# Altium schematic symbol library MagJack.SchLib: 1 symbol
Pins are listed as number, name and electrical type; pins without a type are passive.

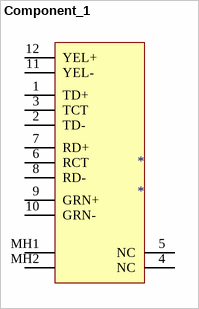
[diagram p0: symbol Component_1]

## Component_1
designator *
footprint CON_RJ45_RA_LEDS
pins: 1 TD+, 2 TD-, 3 TCT, 4 NC, 5 NC, 6 RCT, 7 RD+, 8 RD-, 9 GRN+, 10 GRN-, 11 YEL-, 12 YEL+, MH1, MH2